# Altium footprint library TimerSwitch.PcbLib: 23 footprints (part 1 of 2)
Each footprint in its own frame and in the unit in brackets; x right, y up, seen from the top. Pads: shape width x height; smd on the part's side, far side on the other; paste and mask are expansions set on the pad; w line width, h text height; cw(c..) or ccw(c..) is an arc to the next point about the centre after c.
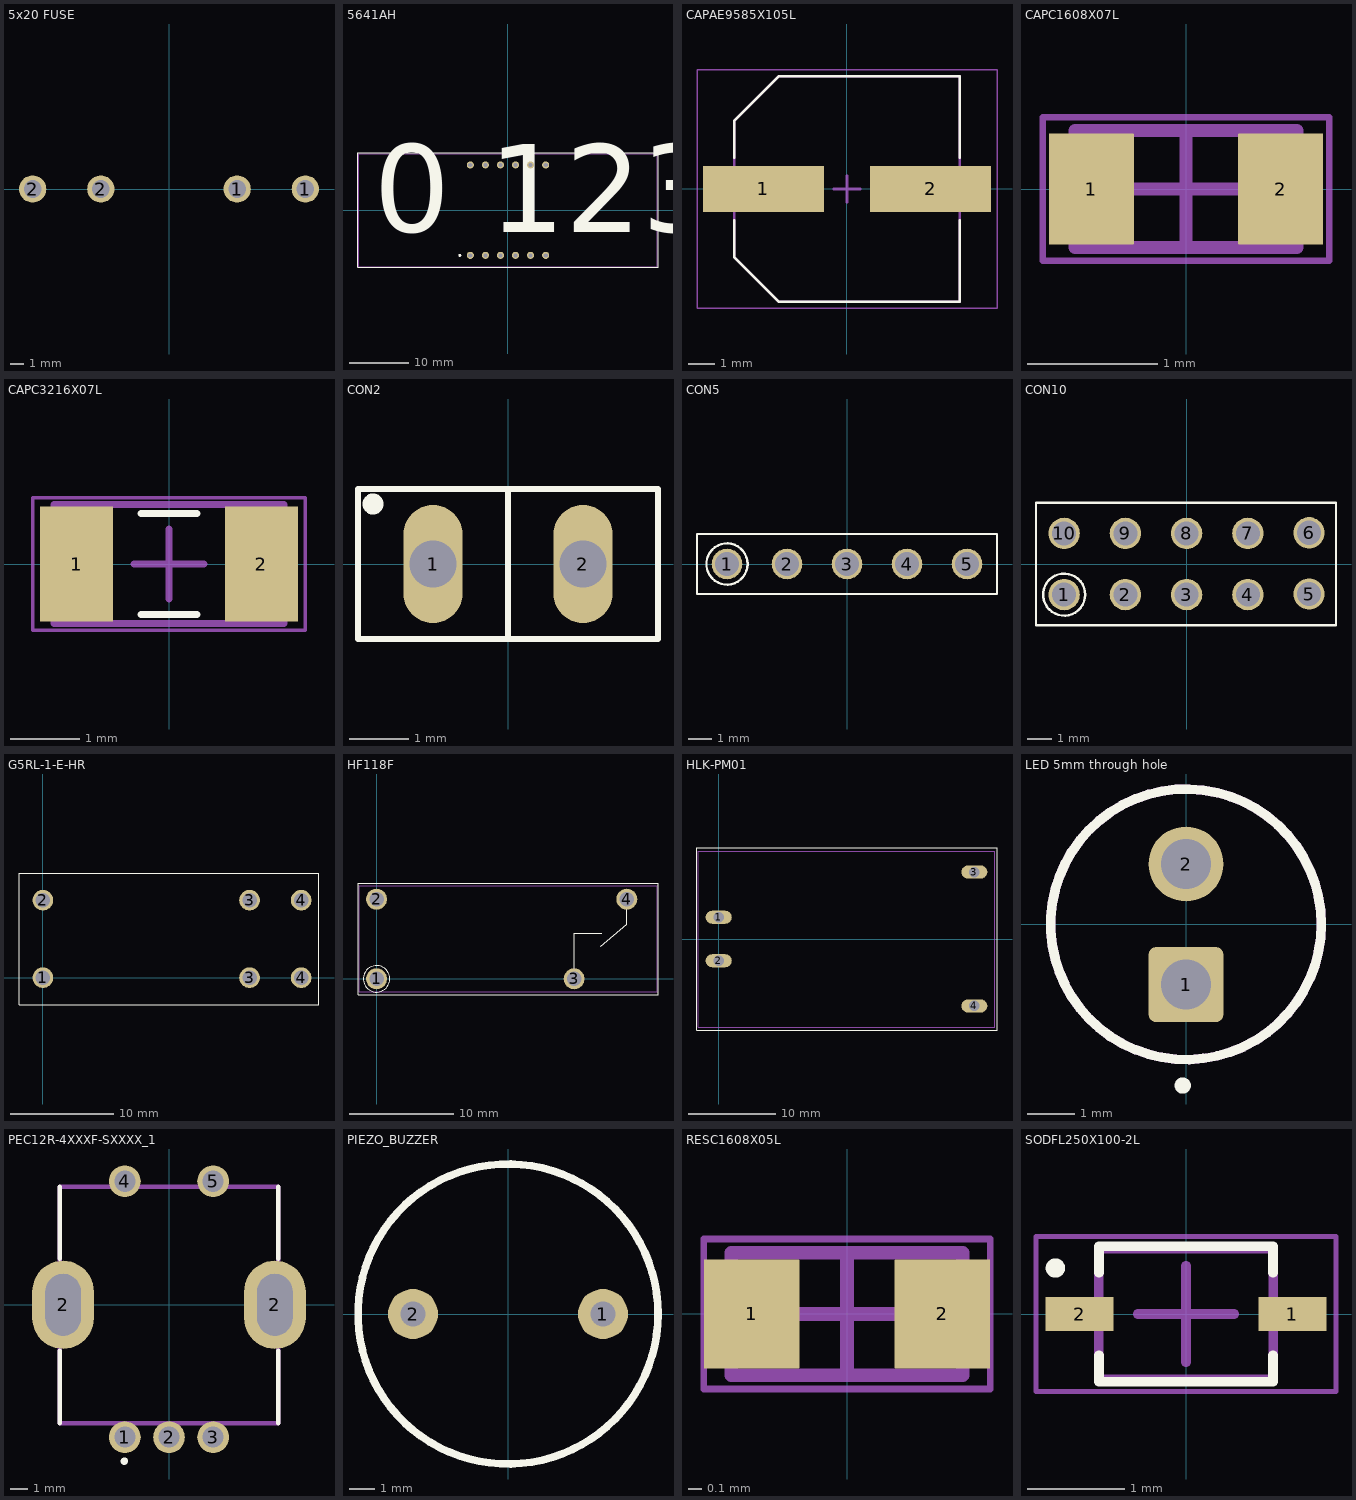
[diagram p0: the footprints below, top view; thin cyan lines are the x and y axes]

## 5x20 FUSE [mm] "5x20 FUSE, 5A, 240v, speed F"
height 8
pads (4):
  round 2 hole 1.3: 1(5,0) 1(10,0) 2(-10,0) 2(-5,0)
3D body "User Library-FUSIVEL.step": height 10.75, standoff 5.75, extent -10,-2.5 10,2.5
3D body "User Library-FUSECLIP.step": height 11.42, standoff -3, extent -10.302,-3.869 -4.698,3.869
3D body "User Library-FUSECLIP.step": height 11.42, standoff -3, extent 4.698,-3.869 10.302,3.869

## 5641AH [mm]
pads (12):
  round 1.2 hole 0.7: 1(-6.35,-7.62) 2(-3.81,-7.62) 3(-1.27,-7.62) 4(1.27,-7.62) 5(3.81,-7.62) 6(6.35,-7.62) 7(6.35,7.62) 8(3.81,7.62) 9(1.27,7.62) 10(-1.27,7.62) 11(-3.81,7.62) 12(-6.35,7.62)
Top Overlay:
  circle w0.254: c-8.128,-7.62 r0.127
  lines w0.102: -25.273,-9.652 -25.273,9.652 25.273,9.652 25.273,-9.652 -25.273,-9.652
  text "0 123" at -22.606,-8.636 h25.4
Mechanical 15:
  lines w0.102: -25.171,-9.525 -25.171,9.525 25.171,9.525 25.171,-9.525 -25.171,-9.525
3D body "7-Segment Display 4-Digit (5641).step": height 8.05, standoff -2, extent -25.15,-9.5 25.15,9.5

## CAPAE9585X105L [mm] "Aluminum Electrolytic Capacitor, Body 8.50x8.45x10.50mm, IPC High Density"
height 10.5
pads (2):
  rrect1% 4.55x1.75 smd: 1(-3.15,0) 2(3.15,0)
Top Overlay:
  lines w0.102: -4.25,-1.175 -4.25,-2.562 -2.562,-4.25 4.25,-4.25 4.25,-1.175 ; -4.25,1.175 -4.25,2.562 -2.562,4.25 4.25,4.25 4.25,1.175
Mechanical 13:
  lines w0.1: -4.25,-2.562 -2.562,-4.25 4.25,-4.25 4.25,4.25 -2.562,4.25 -4.25,2.562 -4.25,-2.562
Mechanical 15:
  lines w0.05: -5.65,-4.5 -5.65,4.5 5.65,4.5 5.65,-4.5 -5.65,-4.5
  lines w0.1: -0.5,0 0.5,0 ; 0,-0.5 0,0.5
3D body "CAPAE9585X105L.step": height 10.5, standoff 0, extent -4.75,-4.25 4.75,4.25

## CAPC1608X07L [mm] "Chip Capacitor, 2-Leads, Body 1.60x0.80mm, IPC High Density"
height 0.7
pads (2):
  rrect1% 0.65x0.85 smd: 1(-0.725,0) 2(0.725,0)
Mechanical 13:
  lines w0.1: -0.85,-0.45 0.85,-0.45 0.85,0.45 -0.85,0.45 -0.85,-0.45
Mechanical 15:
  lines w0.05: -1.1,-0.55 1.1,-0.55 1.1,0.55 -1.1,0.55 -1.1,-0.55
  lines w0.1: -0.45,0 0.45,0 ; 0,-0.45 0,0.45
3D body "CAPC1608X07L.step": height 0.7, standoff 0, extent -0.85,-0.45 0.85,0.45

## CAPC3216X07L [mm] "Chip Capacitor, 2-Leads, Body 3.20x1.60mm, IPC High Density"
height 0.7
pads (2):
  rrect1% 1.05x1.65 smd: 1(-1.325,0) 2(1.325,0)
Top Overlay:
  lines w0.102: -0.4,-0.725 0.4,-0.725 ; -0.4,0.725 0.4,0.725
Mechanical 13:
  lines w0.1: -1.65,-0.85 1.65,-0.85 1.65,0.85 -1.65,0.85 -1.65,-0.85
Mechanical 15:
  lines w0.05: -1.95,-0.95 1.95,-0.95 1.95,0.95 -1.95,0.95 -1.95,-0.95
  lines w0.1: -0.5,0 0.5,0 ; 0,-0.5 0,0.5
3D body "CAPC3216X07L.step": height 0.7, standoff 0, extent -1.65,-0.85 1.65,0.85

## CON2 [mm]
pads (2):
  oval 1x2 hole 0.8: 1(-1.27,0) 2(1.27,0)
Top Overlay:
  circle w0.203: c-2.286,1.016 r0.076
  lines w0.102: 0,-1.27 0,1.27 ; -2.54,-1.27 2.54,-1.27 2.54,1.27 -2.54,1.27 -2.54,-1.27
3D body "2112482_282834-2.stp": height 10, standoff -3.4, extent -2.77,-3.25 2.77,3.25

## CON5 [mm] "2.54 3x2"
pads (5):
  round 1.3 hole 1: 1(-5.08,0) 2(-2.54,0) 3(0,0) 4(2.54,0) 5(5.08,0)
Top Overlay:
  circle w0.102: c-5.08,0 r0.873
  lines w0.102: -6.35,-1.27 6.35,-1.27 6.35,1.27 -6.35,1.27 -6.35,-1.27

## CON10 [mm] "2.54 3x2"
pads (10):
  round 1.3 hole 1: 1(-5.08,-1.27) 2(-2.54,-1.27) 3(0,-1.27) 4(2.54,-1.27) 5(5.08,-1.245) 6(5.08,1.295) 7(2.54,1.27) 8(0,1.27) 9(-2.54,1.27) 10(-5.08,1.27)
Top Overlay:
  circle w0.102: c-5.08,-1.27 r0.873
  lines w0.102: -6.248,-2.54 -6.248,2.54 6.198,2.54 6.198,-2.54 -6.248,-2.54

## G5RL-1-E-HR [mm] "16A 240v relay 5v coil 62.5ohm"
pads (6):
  round 2 hole 1.4: 1(0,0) 2(0,7.5) 3(20,0) 3(20,7.5) 4(25,0) 4(25,7.5)
Top Overlay:
  lines w0.102: -2.311,-2.616 -2.311,10.109 26.721,10.109 26.721,-2.616 -2.311,-2.616
3D body "G5RL_1A_E_HR.step": height 15.7, standoff -3.5, extent -2.3,-2.6 26.7,10.1

## HF118F [mm] "HF118F/005-1HS5T 10A 240V relay coil 5V"
pads (4):
  round 2 hole 1.4: 1(0,0) 2(0,7.62) 3(18.9,0) 4(23.94,7.62)
Top Overlay:
  circle w0.102: c0,0 r1.27
  lines w0.102: 18.9,0 18.9,4.343 21.539,4.343 ; 21.463,3.124 23.94,5.22 23.94,7.62 ; -1.778,-1.524 26.924,-1.524 26.924,9.144 -1.778,9.144 -1.778,-1.524
Mechanical 15:
  lines w0.102: -1.676,-1.219 -1.676,8.915 26.873,8.915 26.873,-1.219 -1.676,-1.219
3D body "HF118F[5].stp": height 12.2, standoff -3.7, extent -1.65,-1.2 26.85,8.9

## HLK-PM01 [mm] "5V PSU"
pads (4):
  oval 3x1.5 hole 1.2: 1(0,2.5) 2(0,-2.5) 3(29.4,7.7) 4(29.4,-7.7)
Top Overlay:
  lines w0.102: -2.5,-10.5 32,-10.5 32,10.5 -2.5,10.5 -2.5,-10.5
Mechanical 15:
  lines w0.102: -2.337,-10.135 -2.337,10.109 -2.311,10.109 31.725,10.109 31.725,-10.135 -2.337,-10.135
3D body "hlk-pm01.step": height 15, standoff -5, extent -2.3,-10.1 31.7,10.1

## LED 5mm through hole [mm] "5MM through hole LED"
pads (2):
  rrect20% 1.58x1.58 hole 1.05: 1(0,-1.27)
  round 1.58 hole 1.05: 2(0,1.27)
Top Overlay:
  circle w0.2: c0,0 r2.85
  circle w0.2: c-0.071,-3.397 r0.072
Mechanical 15:
  circle w0.2: c0,0 r2.85
3D body "LED 5mm.step": height 8.9, standoff -3.59, extent -3,-2.5 3,3

## PEC12R-4XXXF-SXXXX_1 [mm]
pads (7):
  round 1.8 hole 1.2: 1(-2.5,-7.5) 2(0,-7.5) 3(2.5,-7.5) 4(-2.5,7) 5(2.5,7)
  rrect100% 3.5x5 hole 2 slot 3.5 at 90 deg: 2(-6,0)
  oval 3.5x5 hole 2 slot 3.5 at 90 deg: 2(6,0)
Top Overlay:
  circle w0.254: c-2.533,-8.863 r0.082
  lines w0.254: -6.2,-6.7 -6.2,-2.6 ; -6.2,2.6 -6.2,6.7 ; 6.2,-6.7 6.2,-2.6 ; 6.2,2.6 6.2,6.7
Mechanical 13:
  lines w0.254: -6.2,-6.7 -6.2,6.7 6.2,6.7 6.2,-6.7 -6.2,-6.7
3D body "pec11r-4220k_l13-8_w12-4_h26-5.stp": height 26.5, standoff -3.7, extent -6.924,-7.675 6.924,7.175

## PIEZO_BUZZER [mm] "Piezo buzzer"
height 9.5
pads (2):
  round 2 hole 1: 1(3.8,0) 2(-3.8,0)
Top Overlay:
  circle w0.305: c0,0 r6
3D body "buzzer5v.step": height 9.5, standoff -5.5, extent -6,-6 6,6

## RESC1608X05L [mm] "Chip Resistor, 2-Leads, Body 1.60x0.80mm, IPC High Density"
height 0.5
pads (2):
  rrect1% 0.7x0.8 smd: 1(-0.7,0) 2(0.7,0)
Mechanical 13:
  lines w0.1: -0.85,-0.45 -0.85,0.45 0.85,0.45 0.85,-0.45 -0.85,-0.45
Mechanical 15:
  lines w0.05: -1.05,-0.55 -1.05,0.55 1.05,0.55 1.05,-0.55 -1.05,-0.55
  lines w0.1: -0.45,0 0.45,0 ; 0,-0.45 0,0.45
3D body "RESC1608X05L.step": height 0.5, standoff 0, extent -0.85,-0.45 0.85,0.45

## SODFL250X100-2L [mm] "SODFL, 2-Leads, Body 1.25x2.50mm, IPC High Density"
height 1
pads (2):
  rrect1% 0.7x0.35 smd: 1(1.1,0) 2(-1.1,0)
Top Overlay:
  circle w0.1: c-1.35,0.475 r0.05
  lines w0.102: -0.9,-0.426 -0.9,-0.7 0.9,-0.7 0.9,-0.426 ; -0.9,0.426 -0.9,0.7 0.9,0.7 0.9,0.426
Mechanical 13:
  lines w0.1: -0.9,-0.675 0.9,-0.675 0.9,0.675 -0.9,0.675 -0.9,-0.675
Mechanical 15:
  lines w0.05: -1.55,-0.8 1.55,-0.8 1.55,0.8 -1.55,0.8 -1.55,-0.8
  lines w0.1: -0.5,0 0.5,0 ; 0,-0.5 0,0.5
3D body "SODFL250X100-2L.step": height 1, standoff 0, extent -1.25,-0.675 1.25,0.675